# Altium schematic symbol library MOSFET.SchLib: 9 symbols
Pins are listed as number, name and electrical type; pins without a type are passive.

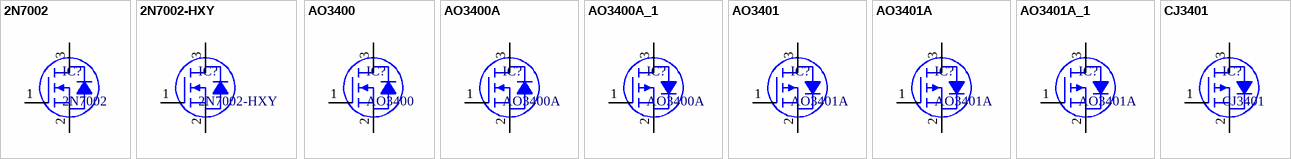
[diagram p0: symbols 2N7002 to CJ3401]

## 2N7002
designator IC?
CJ(江苏长电/长晶) SOT-23 N沟道,60V,0.115A,7Ω@10V; 类别: 场效应管; 连续漏极电流: 115mA; 导通电阻: 5Ω@10V; 耗散功率: 225mW; 阈值电压: 2.5V; 输入电容: 50pF; 反向传输电容: 5pF; 数量: 1个N沟道; 输出电容: 25pF; 制造商: CJ(江苏长电/长晶); 封装: SOT-23; 子类别: N沟道; 漏源电压: 60V
footprint CJ-SOT23 (CJ(江苏长电/长晶) SOT23封装 推荐焊盘)
pins: 1 G, 2 S, 3 D

## 2N7002-HXY
designator IC?
HXY MOSFET(华轩阳电子) SOT-23 N沟道,60V,0.115A,7Ω@10V; 类别: 场效应管; 连续漏极电流: 300mA; 导通电阻: 2Ω@10V,0.1A; 耗散功率: 350mW; 阈值电压: 1.9V; 输入电容: 50pF; 反向传输电容: 4.2pF; 数量: 1个N沟道; 输出电容: 25pF; 制造商: HXY MOSFET(华轩阳电子); 封装: SOT-23; 子类别: N沟道; 漏源电压: 60V
footprint HJC-SOT23 (宏嘉诚 SOT23封装 推荐焊盘)
pins: 1 G, 2 S, 3 D

## AO3400
designator IC?
GOODWORK(固得沃克) SOT-23 1个N沟道 耐压:30V 电流:5.7A; 类别: 场效应管; 子类别: N沟道; 漏源电压: 30V; 连续漏极电流: 5.8A; 导通电阻: 28mΩ@10V; 耗散功率: 1.5W; 阈值电压: 1.4V@250uA; 输入电容: 1.05nF; 反向传输电容: 77pF@15V; 输出电容: 99pF; 制造商: GOODWORK(固得沃克); 封装: SOT-23; 数量: 1个N沟道
footprint GOODWORK-SOT23 (GOODWORK(固得沃克) SOT23 根据尺寸生成)
pins: 1 G, 2 S, 3 D

## AO3400A
designator IC?
CJ(江苏长电/长晶) SOT-23 1个N沟道 耐压:30V 电流:5.7A; 类别: 场效应管; 子类别: N沟道; 漏源电压: 30V; 连续漏极电流: 5.7A; 导通电阻: 26.5mΩ@10V; 耗散功率: 1.4W; 阈值电压: 1.45V@250uA; 输入电容: 630pF; 反向传输电容: 50pF; 输出电容: 75pF; 制造商: CJ(江苏长电/长晶); 封装: SOT-23; 数量: 1个N沟道
footprint CJ-SOT23 (CJ(江苏长电/长晶) SOT23封装 推荐焊盘)
pins: 1 G, 2 S, 3 D

## AO3400A_1
designator IC?, comment AO3400A
UMW(友台半导体) 1个N沟道 耐压:30V 电流:5.8A; 封装: SOT-23; 类别: 场效应管; 子类别: N沟道; 漏源电压: 30V; 连续漏极电流: 5.8A; 导通电阻: 27mΩ@10V; 耗散功率: 1.4W; 阈值电压: 1.4V; 输入电容: 823pF; 反向传输电容: 77pF; 输出电容: 99pF; 制造商: UMW(友台半导体); 数量: 1个N沟道
footprint UMW-SOT23 (UMW(友台半导体) SOT23 根据尺寸生成)
pins: 1 G, 2 S, 3 D

## AO3401
designator IC?, comment AO3401A
TWGMC(台湾迪嘉) SOT-23 1个P沟道 耐压:30V 电流:4.2A; 类别: 场效应管; 子类别: P沟道; 漏源电压: 30V; 连续漏极电流: 4.2; 导通电阻: 65mΩ@10V,4.2A; 耗散功率: 350mW; 阈值电压: 1.3V; 输入电容: 954pF; 反向传输电容: 77pF; 输出电容: 115pF; 制造商: TWGMC(台湾迪嘉); 封装: SOT-23; 数量: 1个P沟道
footprint AOS-SOT23 (AOS SOT23封装 推荐焊盘)
pins: 1 G, 2 S, 3 D

## AO3401A
designator IC?
AOS SOT-23 P沟道,-30V,-4A,50mΩ@-10V; 类别: 场效应管; 漏源电压: 30V; 连续漏极电流: 4A; 导通电阻: 85mΩ@2.5V,2.5A; 耗散功率: 1.4w; 阈值电压: 1.3V@250uA; 输入电容: 645pF; 反向传输电容: 55pF; 数量: 1个P沟道; 输出电容: 80pF; 制造商: AOS; 封装: SOT-23; 子类别: P沟道
footprint AOS-SOT23 (AOS SOT23封装 推荐焊盘)
pins: 1 G, 2 S, 3 D

## AO3401A_1
designator IC?, comment AO3401A
GOODWORK(固得沃克) 1个P沟道 耐压:30V 电流:4.2A适用于电源开关和信号控制; 封装: SOT-23; 类别: 场效应管; 子类别: P沟道; 漏源电压: 30V; 连续漏极电流: 4.2A; 导通电阻: 85mΩ@2.5V,2.5A; 耗散功率: 1.2w; 阈值电压: 1.3V@250uA; 输入电容: 1.05nF@15V; 反向传输电容: 85pF@15V; 输出电容: 85pF; 制造商: GOODWORK(固得沃克); 数量: 1个P沟道
footprint GOODWORK-SOT23 (GOODWORK(固得沃克) SOT23 根据尺寸生成)
pins: 1 G, 2 S, 3 D

## CJ3401
designator IC?
CJ(江苏长电/长晶) SOT-23 P道,耐压:30V 电流:4.2A; 类别: 场效应管; 子类别: P沟道; 漏源电压: 30V; 连续漏极电流: 4.2A; 导通电阻: 65mΩ@-10V; 耗散功率: 350mW; 阈值电压: 1.3V@250uA; 输入电容: 954pF; 反向传输电容: 77pF; 数量: 1个P沟道; 输出电容: 115pF; 制造商: CJ(江苏长电/长晶); 封装: SOT-23
footprint CJ-SOT23 (CJ(江苏长电/长晶) SOT23封装 推荐焊盘)
pins: 1 G, 2 S, 3 D